# EAGLE library part AD8642 (library Fitch_Eagle_Library)
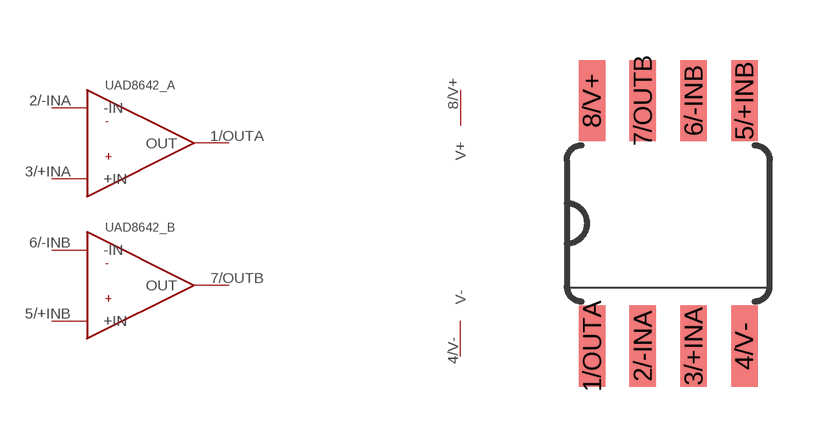
[diagram p4: symbol with the pads of AD8642; footprint AD8642]

Designator prefix -; gates AD8642_A=AD8643 AD8642_B=AD8643 G$3=V+/V-

## AD8642  [AD8642]
1/OUTA  AD8642_A:OUT
2/-INA  AD8642_A:-IN
3/+INA  AD8642_A:+IN
4/V-  G$3:V-
5/+INB  AD8642_B:+IN
6/-INB  AD8642_B:-IN
7/OUTB  AD8642_B:OUT
8/V+  G$3:V+

## Footprint AD8642 (pad centres in mm)
smd 0.66 x 2.032: 1/OUTA -1.905,-3.073; 2/-INA -0.635,-3.073; 3/+INA 0.635,-3.073; 4/V- 1.905,-3.073; 5/+INB 1.905,3.073; 6/-INB 0.635,3.073; 7/OUTB -0.635,3.073; 8/V+ -1.905,3.073